# Altium schematic symbol library ZL201-17G.SchLib: 1 symbol
Pins are listed as number, name and electrical type; pins without a type are passive.

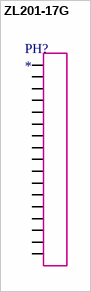
[diagram p0: symbol ZL201-17G]

## ZL201-17G
designator PH?
footprint ZL201-17G
pins: 1, 2, 3, 4, 5, 6, 7, 8, 9, 10, 11, 12, 13, 14, 15, 16, 17